# EAGLE library part GW22LHP (library SamacSys_Parts)
NKK SWITCHES - GW22LHP - ROCKER SWITCH, DPDT, ON-ON Source: Datasheet <https://www.nkkswitches.com/pdf/GW.pdf>
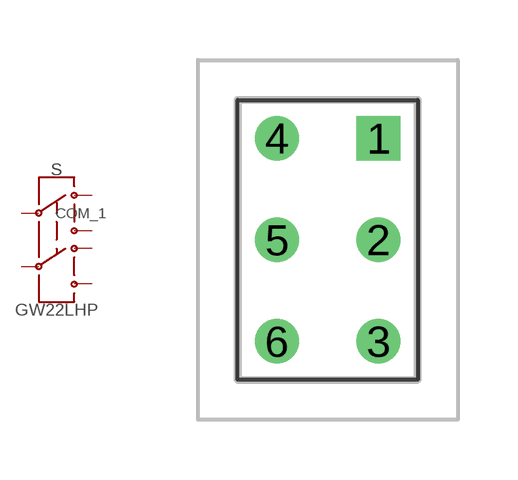
[diagram p2: symbol with the pads of GW22LHP; footprint GW22LHP]

Designator prefix S

## GW22LHP (ALLIED_NUMBER: 70365614; ALLIED_PRICE-STOCK: https://www.alliedelec.com/nkkswitches-gw22lhp/70365614/; DESCRIPTION: NKK SWITCHES - GW22LHP - ROCKER SWITCH, DPDT, ON-ON; HEIGHT: 10.8mm; MANUFACTURER_NAME: NKK Switches; MANUFACTURER_PART_NUMBER: GW22LHP; MOUSER_PART_NUMBER: 633-GW22LHP; MOUSER_PRICE-STOCK: https://www.mouser.com/Search/Refine.aspx?Keyword=633-GW22LHP)  [GW22LHP]
1  NO_1
2  COM_1
3  NC_1
4  NO_2
5  COM_2
6  NC_2

## Footprint GW22LHP (pad centres in mm)
GW22LHP-3
drill 0.6 pad 1 square: 1 0,0
drill 0.6 pad 1: 2 0,-2.54; 3 0,-5.08; 4 -2.54,0; 5 -2.54,-2.54; 6 -2.54,-5.08